# EAGLE library part WE-FB_EP7_SCH2 (library Wurth_Power Magnetics_WE-FB)
WE-FB Flyback Transformer suitable for LT3573/ LT3574/ LT3575/ LT3748 Characteristics easy design in solution less external components needed small board space low cost no optocoupler needed! long term reliability voltage control no aging same external parts for different output voltages easy design of custom power supply due to standard circuit and change of transformers and two components for feedback loop Isolation voltage up to 2.5 kV Applications Isolated power design Sensor interfaces Isolated telecom converters Power over Ethernet The Variant for the device "_p8.13 mean the pitch OF PAD is 8.13mm The "VALUE"shown for symbol and packaging is Ooutput Voltage 1 Output Current 1 <https://katalog.we-online.com/media/images/v2/o35283v209%20Family_we-fb_LT%20Kits_gruppe.jpg> Details see: https://katalog.we-online.com/en/pbs/WE-FB Updated by Yingchun,Shan 2019-08-27 2019 Wurth Elektronik
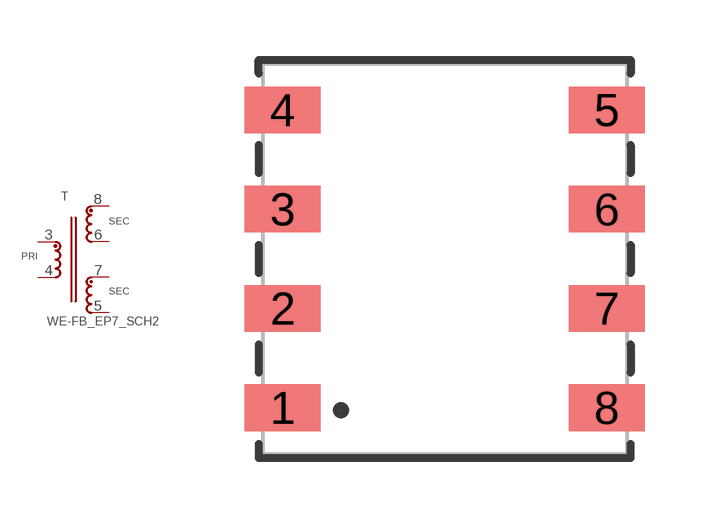
[diagram p15: symbol with the pads of WE-FB_EP7_P8.13; footprint WE-FB_EP7_P8.13]

Designator prefix T

## WE-FB_EP7_SCH2_750311692 (DATASHEET-URL: https://katalog.we-online.com/pbs/datasheet/750311692.pdf; IO2: 0.01A; ISAT: 1A; L: 80uH; LSMIN: 2uH; N: 1:5; PART-NUMBER: 750311692; VALUE: 150V 0.001A; VI: 8-15V(DC); VO2: 150V; VT: 1500V(AC))  [WE-FB_EP7_P8.13]
3  1  pas
4  2  pas
5  3  pas
6  5  pas
7  4  pas
8  6  pas

## Footprint WE-FB_EP7_P8.13 (pad centres in mm)
WE-FB Flyback Transformer suitable for LT3573/ LT3574/ LT3575/ LT3748 Size: EP7 SMD 8Pin Pitch of PAD=8.13mm
smd 1.91 x 1.17: 1 -4.065,-3.735; 2 -4.065,-1.245; 3 -4.065,1.245; 4 -4.065,3.735; 5 4.065,3.735; 6 4.065,1.245; 7 4.065,-1.245; 8 4.065,-3.735